# EAGLE library part AD5242 (library fcounter)
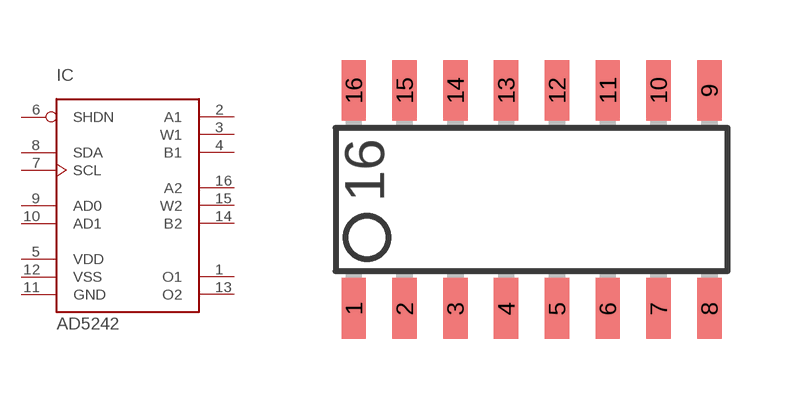
[diagram p9: symbol with the pads of SOIC16; footprint SOIC16]

Designator prefix IC

## AD5242  [SOIC16]
1  O1  out
2  A1
3  W1
4  B1
5  VDD  pwr
6  SHDN  in
7  SCL  in
8  SDA
9  AD0  in
10  AD1  in
11  GND  pwr
12  VSS  pwr
13  O2  out
14  B2
15  W2
16  A2

## Footprint SOIC16 (pad centres in mm)
smd 0.61 x 1.524: 1 -4.445,-2.794; 2 -3.175,-2.794; 3 -1.905,-2.794; 4 -0.635,-2.794; 5 0.635,-2.794; 6 1.905,-2.794; 7 3.175,-2.794; 8 4.445,-2.794; 9 4.445,2.667; 10 3.175,2.667; 11 1.905,2.667; 12 0.635,2.667; 13 -0.635,2.667; 14 -1.905,2.667; 15 -3.175,2.667; 16 -4.445,2.667